# Altium schematic symbol library BLM03AG Resistive Inductor.SchLib: 1 symbol
Pins are listed as number, name and electrical type; pins without a type are passive.

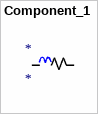
[diagram p0: symbol Component_1]

## Component_1
designator *
footprint INDC0603X10N (Chip Inductor, 2-Leads, Body 0.60x0.30mm, IPC Medium Density)
pins: 0, 1